# EAGLE library part 0915BM15A0001 (library board)
915 MHz Impedance Matched Balun-Filter For TI CC11xx Chipset family Data sheet <http://www.johansontechnology.com/datasheets/chipset-specific/0915BM15A0001.pdf>
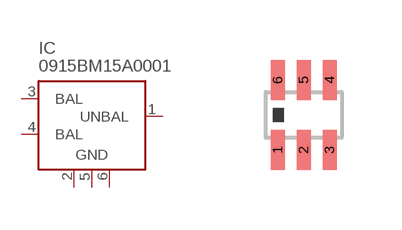
[diagram p1: symbol with the pads of 0915BM15A0001; footprint 0915BM15A0001]

Designator prefix IC

## 0915BM15A0001  [0915BM15A0001]
1  UNBAL  pas
2  GND  pas
3  BAL  pas
4  BAL  pas
5  GND  pas
6  GND  pas

## Footprint 0915BM15A0001 (pad centres in mm)
915 MHz Impedance Matched Balun-Filter For TI CC11xx Chipset family Data sheet <http://www.johansontechnology.com/datasheets/chipset-specific/0915BM15A0001.pdf>
smd 0.35 x 1: 1 -0.65,-0.875; 2 0,-0.875; 3 0.65,-0.875; 4 0.65,0.875; 5 0,0.875; 6 -0.65,0.875